# Altium footprint library SOP63P650X265_HS-16N.PcbLib: 1 footprints
Each footprint in its own frame and in the unit in brackets; x right, y up, seen from the top. Pads: shape width x height; smd on the part's side, far side on the other; paste and mask are expansions set on the pad; w line width, h text height; cw(c..) or ccw(c..) is an arc to the next point about the centre after c.
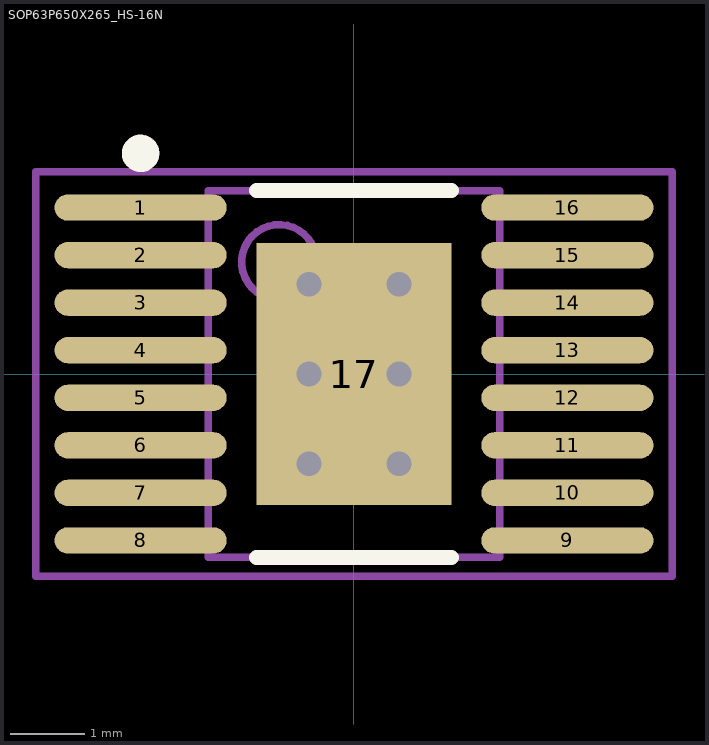
[diagram p0: the footprint, top view; thin cyan lines are the x and y axes]

## SOP63P650X265_HS-16N [mm] "SOP, 16-Leads, Body 4.9x3.9mm (max), Pitch 0.63mm, IPC Medium Density"
height 2.65
pads (17):
  oval 2.3x0.35 smd: 1(-2.85,2.222) 2(-2.85,1.587) 3(-2.85,0.953) 4(-2.85,0.318) 5(-2.85,-0.318) 6(-2.85,-0.953) 7(-2.85,-1.587) 8(-2.85,-2.222) 9(2.85,-2.222) 10(2.85,-1.587) 11(2.85,-0.953) 12(2.85,-0.318) 13(2.85,0.318) 14(2.85,0.953) 15(2.85,1.587) 16(2.85,2.222)
  rect 2.6x3.5 smd: 17(0,0)
via 0.6,-1.2 diameter 0.66 hole 0.33
via -0.6,-1.2 diameter 0.66 hole 0.33
via 0.6,0 diameter 0.66 hole 0.33
via -0.6,0 diameter 0.66 hole 0.33
via 0.6,1.2 diameter 0.66 hole 0.33
via -0.6,1.2 diameter 0.66 hole 0.33
Top Overlay:
  circle w0.25: c-2.85,2.947 r0.125
  lines w0.2: -1.3,-2.45 1.3,-2.45 ; -1.3,2.45 1.3,2.45
Mechanical 13:
  circle w0.1: c-1,1.495 r0.5
  lines w0.1: -1.95,-2.445 1.95,-2.445 1.95,2.445 -1.95,2.445 -1.95,-2.445
Mechanical 15:
  lines w0.1: -0.5,0 0.5,0 ; 0,-0.5 0,0.5 ; -4.25,-2.7 4.25,-2.7 4.25,2.7 -4.25,2.7 -4.25,-2.7
3D body: height 2.65, standoff 0.25, extent -1.95,-2.445 1.95,2.445